# Altium footprint library PCB1.PcbLib: 21 footprints (part 2 of 2)
Each footprint in its own frame and in the unit in brackets; x right, y up, seen from the top. Pads: shape width x height; smd on the part's side, far side on the other; paste and mask are expansions set on the pad; w line width, h text height; cw(c..) or ccw(c..) is an arc to the next point about the centre after c.
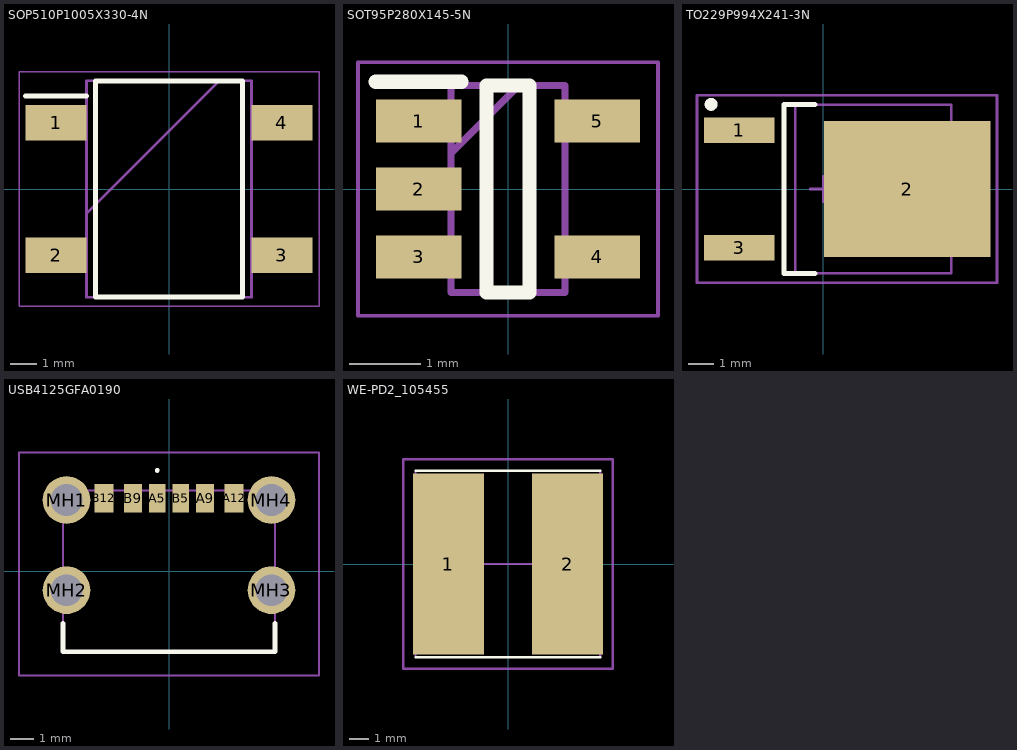
[diagram p1: the footprints below, top view; thin cyan lines are the x and y axes]

## SOP510P1005X330-4N [mm]
pads (4):
  rect 2.35x1.35 smd: 1(-4.35,2.55) 2(-4.35,-2.55) 3(4.35,-2.55) 4(4.35,2.55)
Top Overlay:
  lines w0.2: -5.525,3.575 -3.175,3.575 ; -2.825,-4.16 -2.825,4.16 2.825,4.16 2.825,-4.16 -2.825,-4.16
Mechanical 13:
  lines w0.1: -3.175,-0.94 1.925,4.16 ; -3.175,-4.16 -3.175,4.16 3.175,4.16 3.175,-4.16 -3.175,-4.16
Mechanical 15:
  lines w0.05: -5.775,-4.505 -5.775,4.505 5.775,4.505 5.775,-4.505 -5.775,-4.505
3D body "DF10SA-E3_77.stp": height 3.3, standoff 0, extent -5.025,-4.16 5.025,4.16

## SOT95P280X145-5N [mm]
pads (5):
  rect 1.2x0.6 smd: 1(-1.25,0.95) 2(-1.25,0) 3(-1.25,-0.95) 4(1.25,-0.95) 5(1.25,0.95)
Top Overlay:
  lines w0.2: -1.85,1.5 -0.65,1.5 ; -0.3,-1.45 -0.3,1.45 0.3,1.45 0.3,-1.45 -0.3,-1.45
Mechanical 13:
  lines w0.1: -0.8,0.5 0.15,1.45 ; -0.8,-1.45 -0.8,1.45 0.8,1.45 0.8,-1.45 -0.8,-1.45
Mechanical 15:
  lines w0.05: -2.1,-1.775 -2.1,1.775 2.1,1.775 2.1,-1.775 -2.1,-1.775
3D body "LMV431CM5_NOPB.stp": height 1.2, standoff 0, extent -1.4,-1.45 1.4,1.45

## TO229P994X241-3N [mm] "TO,2.29mm pitch;2 pin,9.94mm L X 6.095mm W X 2.41mm H body"
height 2.41
pads (3):
  rect 2.75x1 smd paste+0 mask+0: 1(-3.275,2.29) 3(-3.275,-2.29)
  rect 6.5x5.3 smd paste+0 mask+0: 2(3.275,0)
Top Overlay:
  circle w0.25: c-4.375,3.3 r0.125
  lines w0.2: -0.325,-3.3 -1.525,-3.3 -1.525,3.3 -0.325,3.3
Top Courtyard:
  text ".DESIGNATOR" at 0,0 h1.2
Mechanical 13:
  lines w0.1: 4.994,-3.283 4.994,3.283 -1.101,3.283 -1.101,-3.283 4.995,-3.282
Mechanical 15:
  lines w0.1: -0.5,0 0.5,0 ; 0,-0.5 0,0.5 ; -4.925,-3.65 -4.925,3.65 6.775,3.65 6.775,-3.65 -4.925,-3.65
3D body "TO252-3-11.stp": height 2.36, standoff 0, extent -4.065,-3.25 5.915,3.25

## USB4125GFA0190 [mm]
pads (10):
  rect 0.7x1.2 smd: A5(-0.5,3.08) B5(0.5,3.08)
  rect 0.76x1.2 smd: A9(1.52,3.08) B9(-1.52,3.08)
  rect 0.8x1.2 smd: A12(2.75,3.08) B12(-2.75,3.08)
  round 2.01 hole 1.34: MH1(-4.32,3) MH2(-4.32,-0.8) MH3(4.32,-0.8) MH4(4.32,3)
Top Overlay:
  lines w0.1: -0.5,4.2 cw(c-0.5,4.25) -0.5,4.3 cw(c-0.5,4.25) -0.5,4.2
  lines w0.2: -4.47,-2.2 -4.47,-3.4 4.47,-3.4 4.47,-2.2
Mechanical 13:
  lines w0.1: -4.47,-3.4 -4.47,3.4 4.47,3.4 4.47,-3.4 -4.47,-3.4
Mechanical 15:
  lines w0.1: -6.325,-4.4 -6.325,5.005 6.325,5.005 6.325,-4.4 -6.325,-4.4
3D body "USB4125-GF-A-0190.stp": height 3.26, standoff -2.15, extent -4.47,-3.45 4.47,3.45

## WE-PD2_105455 [mm]
pads (2):
  rect 3.75x9.5 smd: 1(-3.125,0) 2(3.125,0)
Top Overlay:
  lines w0.127: -4.858,-4.895 4.84,-4.895 ; -4.858,4.895 4.84,4.895
Mechanical 13:
  lines w0.127: -4.858,-4.895 -4.858,4.895 ; -3.125,0 3.125,0 ; 4.84,-4.895 4.84,4.895
Mechanical 15:
  lines w0.127: -5.5,-5.5 5.5,-5.5 5.5,5.5 -5.5,5.5 -5.5,-5.5
3D body "744776247.stp": height 5.4, standoff 0, extent -5.045,-4.5 5.045,4.5